# Altium footprint library Comments.PcbLib: 24 footprints (part 2 of 2)
Each footprint in its own frame and in the unit in brackets; x right, y up, seen from the top. Pads: shape width x height; smd on the part's side, far side on the other; paste and mask are expansions set on the pad; w line width, h text height; cw(c..) or ccw(c..) is an arc to the next point about the centre after c.
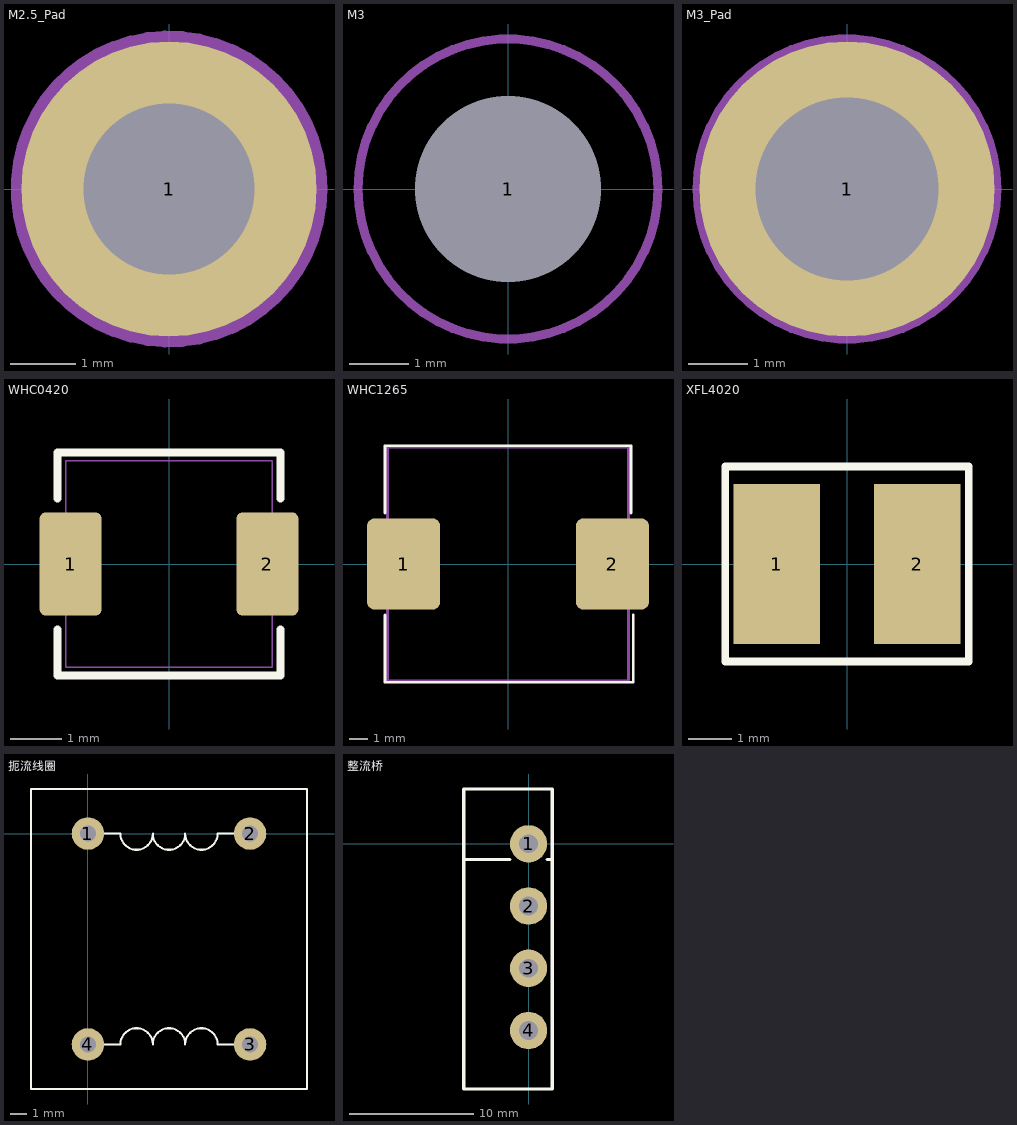
[diagram p1: the footprints below, top view; thin cyan lines are the x and y axes]

## M2.5_Pad [mm] "螺丝孔M2.5"
pads (1):
  round 4.5 hole 2.6: 1(0,0)
Mechanical 15:
  circle w0.254: c0,0 r2.286

## M3 [mm] "螺丝孔M3"
pads (1):
  round 3.1 hole 3.15: 1(0,0)
Mechanical 15:
  circle w0.152: c0,0 r2.54

## M3_Pad [mm] "螺丝孔M3"
pads (1):
  round 5 hole 3.1: 1(0,0)
Mechanical 15:
  circle w0.152: c0,0 r2.54

## WHC0420 [mm] "4*4*2, 4A"
height 2
pads (2):
  rrect20% 1.2x2 smd: 1(-1.905,0) 2(1.905,0)
Top Overlay:
  lines w0.152: -2.159,-1.27 -2.159,-2.159 2.159,-2.159 2.159,-1.27 ; -2.159,1.27 -2.159,2.159 2.159,2.159 2.159,1.27
Mechanical 15:
  lines w0.03: -2,-2 -2,2 2,2 2,-2 -2,-2
3D body "Coilcraft-XAL4020.STEP": height 2, standoff -0.1, extent -2.15,-2.15 2.15,2.15

## WHC1265 [mm] "12.8*13.2*5,7.5A"
pads (2):
  rrect20% 4x5 smd: 1(-5.715,0) 2(5.715,0)
Top Overlay:
  lines w0.152: -6.731,-2.794 -6.731,-6.477 6.858,-6.477 6.858,-2.794 ; -6.731,2.794 -6.731,6.477 6.731,6.477 6.731,2.794
Mechanical 15:
  lines w0.152: -6.6,-6.4 6.6,-6.4 6.6,6.4 -6.6,6.4 -6.6,-6.4
3D body "Coilcraft-MSS1246-DEFAULT.STEP": height 0.2, standoff -4.6, extent -6.1,-6.1 6.1,6.1

## XFL4020 [mm] "W*L*H 4mm*4mm*2mm"
height 0.6
pads (2):
  rect 2x3.7 smd: 1(-1.626,0) 2(1.626,0)
Top Overlay:
  lines w0.178: -2.819,-2.261 2.819,-2.261 2.819,2.261 -2.819,2.261 -2.819,-2.261
3D body "User Library-XFL4020.STEP": height 2.1, standoff 0, extent -2.15,-2.15 2.15,2.15

## 扼流线圈 [mm]
pads (4):
  round 2 hole 1: 1(0,0) 2(10,0) 3(10,-13) 4(0,-13)
Top Overlay:
  lines w0.127: 0,-13 2,-13 cw(c3,-13) 4,-13 cw(c5,-13) 6,-13 cw(c7,-13) 8,-13 10,-13 ; 0,0 2,0 ccw(c3,0) 4,0 ccw(c5,0) 6,0 ccw(c7,0) 8,0 10,0 ; -3.5,-15.75 13.5,-15.75 13.5,2.75 -3.5,2.75 -3.5,-15.75
3D body "User Library-Choke 13x10.STEP": height 27.53, standoff -3.25, extent -4.497,-17.682 14.504,4.474

## 整流桥 [mm]
pads (4):
  round 3 hole 1.5: 1(0,0) 2(0,-5) 3(0,-10) 4(0,-15)
Top Overlay:
  lines w0.254: -5.2,-1.25 -1.5,-1.25 ; 1.5,-1.25 1.9,-1.25 ; -5.2,-19.7 -5.2,4.4 1.9,4.4 1.9,-19.7 -5.2,-19.7
3D body "User Library-KBU80X.STEP": height 19.9, standoff -7.9, extent -5.01,-19.55 1.7,4.15